# Altium schematic symbol library PowerManagement.SchLib: 6 symbols
Pins are listed as number, name and electrical type; pins without a type are passive.

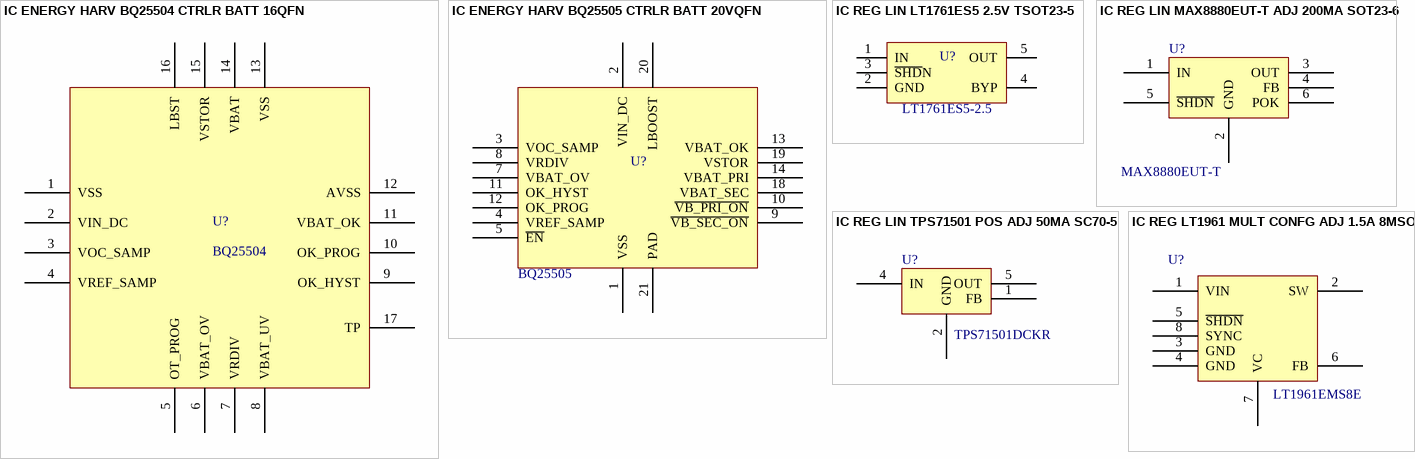
[diagram p0: symbols IC ENERGY HARV BQ25504 CTRLR BATT 16QFN to IC REG LT1961 MULT CONFG ADJ 1.5A 8MSOP]

## IC ENERGY HARV BQ25504 CTRLR BATT 16QFN
designator U?, comment BQ25504
Battery Management Ultra Low Power Boost Converter; Manufacturer Part Number: BQ25504RGTT; Manufacturer: Texas Instruments; Supplier Link 1: https://www.mouser.at/ProductDetail/Texas-Instruments/BQ25504RGTT?qs=sGAEpiMZZMup7tjzoikJdi1VUOrAtStJ; Supplier Part Number 1: 595-BQ25504RGTT
footprint VQFN-16-0.5mm
pins: 1 VSS, 2 VIN_DC, 3 VOC_SAMP, 4 VREF_SAMP, 5 OT_PROG, 6 VBAT_OV, 7 VRDIV, 8 VBAT_UV, 9 OK_HYST, 10 OK_PROG, 11 VBAT_OK, 12 AVSS, 13 VSS, 14 VBAT, 15 VSTOR, 16 LBST, 17 TP

## IC ENERGY HARV BQ25505 CTRLR BATT 20VQFN
designator U?, comment BQ25505
Energy Harvesting PMIC 20-VQFN (3.5x3.5); PartNumber1: BQ25505RGRT; Supplier 1: Digi-Key; Supplier 2: Digi-Key; Supplier 3: Farnell; Supplier 4: Mouser; Supplier 5: Arrow; Supplier 6: Avnet; Supplier 7: Digi-Key; Supplier 8: Newark; Supplier 9: Newark; Supplier 10: Newark; Supplier 11: Arrow; Supplier 12: Farnell; Supplier Part Number 9: 27X8645; Supplier Part Number 8: 19X9926; Supplier Part Number 7: 296-39553-2-ND; Supplier Part Number 6: BQ25505RGRT; Supplier Part Number 5: BQ25505RGRT; Supplier Part Number 4: 595-BQ25505RGRT; Supplier Part Number 3: 2373544; Supplier Part Number 2: 296-39553-6-ND; Supplier Part Number 12: 2458735; Supplier Part Number 1: 296-39553-1-ND; Supplier Part Number 10: 11X2807; Supplier Part Number 11: BQ25505RGRT**MULT1; Value: BQ25505
footprint PVQFN-N20 (VQFN, 20-Leads, Body 3,50x3,50mm, Pitch 0,50mm, Thermal Pad 2,00x2,00mm, IPC Medium Density)
pins: 1 VSS, 2 VIN_DC (power), 3 VOC_SAMP, 4 VREF_SAMP, 5 ~{EN}, 6 NC hidden, 7 VBAT_OV, 8 VRDIV, 9 ~{VB_SEC_ON}, 10 ~{VB_PRI_ON}, 11 OK_HYST, 12 OK_PROG, 13 VBAT_OK, 14 VBAT_PRI, 15 VSS hidden, 16 NC hidden, 17 NC hidden, 18 VBAT_SEC, 19 VSTOR, 20 LBOOST, 21 PAD

## IC REG LIN LT1761ES5 2.5V TSOT23-5
designator U?  value LT1761ES5-2.5
Linear Voltage Regulator IC Positive Fixed 1 Output  100mA TSOT-23-5; PartNumber1: LT1761ES5-2.5; Supplier 1: Digi-Key; Supplier 2: Digi-Key; Supplier 3: Arrow; Supplier 4: Mouser; Supplier 5: RSComponents; Supplier 6: RSComponents; Supplier 7: Farnell; Supplier 8: Farnell; Supplier 9: RSComponents; Supplier 10: RSComponents; Supplier Part Number 1: LT1761ES5-2.5#TRMPBFDKR-ND; Supplier Part Number 10: 7799401; Supplier Part Number 2: LT1761ES5-2.5#TRMPBFTR-ND; Supplier Part Number 3: LT1761ES5-2.5#TRMPBF; Supplier Part Number 4: 584-1761ES5-2.5TMPF; Supplier Part Number 5: 7799401P; Supplier Part Number 6: 779-9401; Supplier Part Number 7: 1663776; Supplier Part Number 8: 1663776RL; Supplier Part Number 9: 1556713
footprint TSOT23-5 (TSOT23, 5-Leads, Body 2.90x2.80mm, Pitch 0.95mm, IPC Medium Density)
pins: 1 IN, 2 GND, 3 ~{SHD}N, 4 BYP, 5 OUT

## IC REG LIN MAX8880EUT-T ADJ 200MA SOT23-6
designator U?  value MAX8880EUT-T  (hidden comment: *)
Linear Voltage Regulator IC Positive Adjustable 1 Output 1.25 V ~ 5 V 200mA SOT-23-6; PartNumber1: MAX8880EUT-T
footprint SOT23-6
pins: 1 IN, 2 GND (power), 3 OUT, 4 FB, 5 ~{SHDN}, 6 POK

## IC REG LIN TPS71501 POS ADJ 50MA SC70-5
designator U?  value TPS71501DCKR  (hidden comment: *)
Linear Voltage Regulator IC Positive Adjustable 1 Output 1.2 V ~ 15 V 50mA SC-70-5; PartNumber1: TPS71501DCKR
footprint SC70-5
pins: 1 FB, 2 GND, 4 IN, 5 OUT

## IC REG LT1961 MULT CONFG ADJ 1.5A 8MSOP
designator U?  value LT1961EMS8E  (hidden comment: *)
Boost, Flyback, SEPIC Switching Regulator IC Positive Adjustable 1.2V 1 Output 1.5A (Switch) 8-TSSOP, 8-MSOP (0.118", 3.00mm Width) Exposed Pad; PartNumber1: LT1961EMS8E#TRPBF
footprint MS8E
pins: 1 VIN, 2 SW, 3 GND, 4 GND, 5 ~{SHDN}, 6 FB, 7 VC, 8 SYNC